# Altium footprint library Logic_Pcb.PcbLib: 6 footprints
Each footprint in its own frame and in the unit in brackets; x right, y up, seen from the top. Pads: shape width x height; smd on the part's side, far side on the other; paste and mask are expansions set on the pad; w line width, h text height; cw(c..) or ccw(c..) is an arc to the next point about the centre after c.
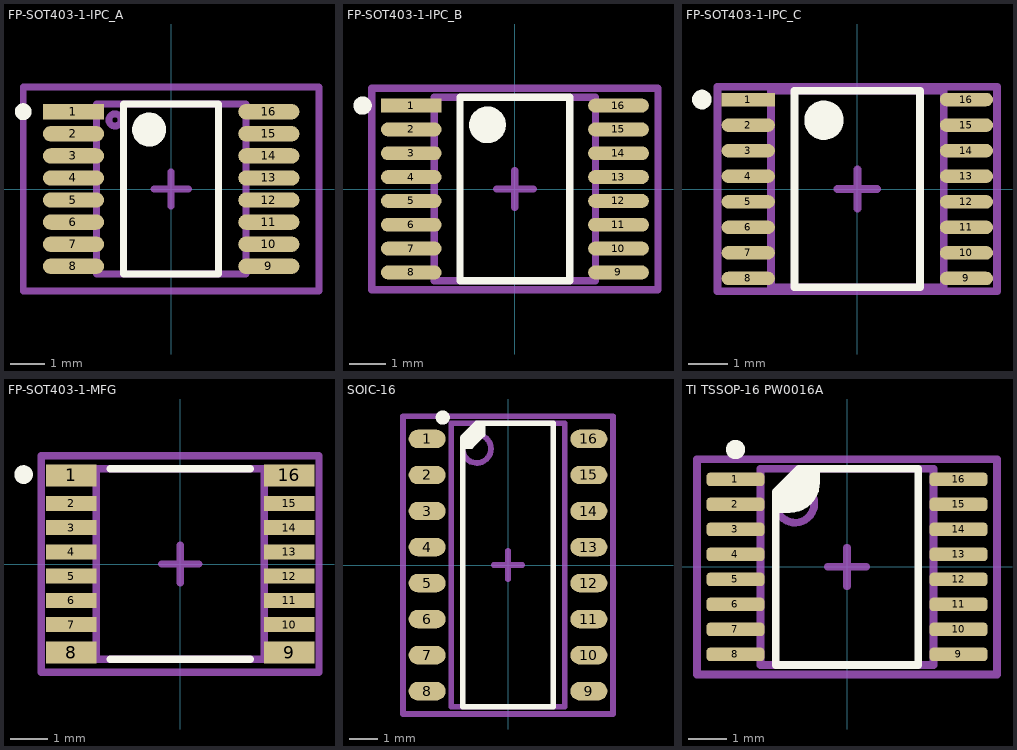
[diagram p0: the footprints below, top view; thin cyan lines are the x and y axes]

## FP-SOT403-1-IPC_A [mm]
pads (16):
  rect 1.8x0.45 smd paste+0 mask+0: 1(-2.875,2.275)
  rrect100% 1.8x0.45 smd paste+0 mask+0: 2(-2.875,1.625) 3(-2.875,0.975) 4(-2.875,0.325) 5(-2.875,-0.325) 6(-2.875,-0.975) 7(-2.875,-1.625) 8(-2.875,-2.275) 9(2.875,-2.275) 10(2.875,-1.625) 11(2.875,-0.975) 12(2.875,-0.325) 13(2.875,0.325) 14(2.875,0.975) 15(2.875,1.625) 16(2.875,2.275)
Top Overlay:
  circle w0.25: c-4.353,2.275 r0.125
  circle w0.5: c-0.648,1.75 r0.25
  lines w0.2: -1.398,-2.5 -1.398,2.5 1.398,2.5 1.398,-2.5 -1.398,-2.5
Mechanical 13:
  circle w0.2: c-1.651,2.032 r0.18
  lines w0.2: -2.2,-2.5 -2.2,2.5 2.2,2.5 2.2,-2.5 -2.2,-2.5
Mechanical 15:
  lines w0.2: -0.508,0 0.508,0 ; 0,-0.508 0,0.508 ; -4.353,-3 -4.353,3 4.353,3 4.353,-3 -4.353,-3
3D body "IC_Nexperia_74HC595PW_118_eec.STEP": height 0.25, standoff 0, extent -4.353,-3 4.353,3

## FP-SOT403-1-IPC_B [mm]
pads (16):
  rect 1.655x0.381 smd paste+0 mask+0: 1(-2.825,2.275)
  rrect100% 1.655x0.381 smd paste+0 mask+0: 2(-2.825,1.625) 3(-2.825,0.975) 4(-2.825,0.325) 5(-2.825,-0.325) 6(-2.825,-0.975) 7(-2.825,-1.625) 8(-2.825,-2.275) 9(2.825,-2.275) 10(2.825,-1.625) 11(2.825,-0.975) 12(2.825,-0.325) 13(2.825,0.325) 14(2.825,0.975) 15(2.825,1.625) 16(2.825,2.275)
Top Overlay:
  circle w0.5: c-0.748,1.75 r0.25
  circle w0.25: c-4.153,2.275 r0.125
  lines w0.2: -1.498,-2.5 1.498,-2.5 1.498,2.5 -1.498,2.5 -1.498,-2.5
Mechanical 13:
  lines w0.2: -2.2,-2.5 2.2,-2.5 2.2,2.5 -2.2,2.5 -2.2,-2.5
Mechanical 15:
  lines w0.2: -0.5,0 0.5,0 ; 0,-0.5 0,0.5 ; -3.903,-2.75 3.903,-2.75 3.903,2.75 -3.903,2.75 -3.903,-2.75
3D body "IC_Nexperia_74HC595PW_118_eec.STEP": height 0.25, standoff 0, extent -3.903,-2.75 3.903,2.75

## FP-SOT403-1-IPC_C [mm]
pads (16):
  rect 1.355x0.341 smd paste+0 mask+0: 1(-2.775,2.275)
  rrect100% 1.355x0.341 smd paste+0 mask+0: 2(-2.775,1.625) 3(-2.775,0.975) 4(-2.775,0.325) 5(-2.775,-0.325) 6(-2.775,-0.975) 7(-2.775,-1.625) 8(-2.775,-2.275) 9(2.775,-2.275) 10(2.775,-1.625) 11(2.775,-0.975) 12(2.775,-0.325) 13(2.775,0.325) 14(2.775,0.975) 15(2.775,1.625) 16(2.775,2.275)
Top Overlay:
  circle w0.5: c-0.848,1.75 r0.25
  circle w0.25: c-3.953,2.275 r0.125
  lines w0.2: -1.598,-2.5 1.598,-2.5 1.598,2.5 -1.598,2.5 -1.598,-2.5
Mechanical 13:
  lines w0.2: -2.2,-2.5 2.2,-2.5 2.2,2.5 -2.2,2.5 -2.2,-2.5
Mechanical 15:
  lines w0.2: -0.5,0 0.5,0 ; 0,-0.5 0,0.5 ; -3.553,-2.6 3.553,-2.6 3.553,2.6 -3.553,2.6 -3.553,-2.6
3D body "IC_Nexperia_74HC595PW_118_eec.STEP": height 0.25, standoff 0, extent -3.553,-2.6 3.553,2.6

## FP-SOT403-1-MFG [mm]
pads (16):
  rect 1.35x0.6 smd paste-1000 mask+0: 1(-2.925,2.375) 8(-2.925,-2.375) 9(2.925,-2.375) 16(2.925,2.375)
  rect 1.35x0.4 smd paste-1000 mask+0: 2(-2.925,1.625) 3(-2.925,0.975) 4(-2.925,0.325) 5(-2.925,-0.325) 6(-2.925,-0.975) 7(-2.925,-1.625) 10(2.925,-1.625) 11(2.925,-0.975) 12(2.925,-0.325) 13(2.925,0.325) 14(2.925,0.975) 15(2.925,1.625)
Top Overlay:
  circle w0.25: c-4.2,2.4 r0.125
  lines w0.2: -1.875,-2.55 1.875,-2.55 ; -1.875,2.55 1.875,2.55
Top Paste:
  rectangle: 2.3,2.125 3.55,2.625
  rectangle: 2.3,1.475 3.55,1.775
  rectangle: 2.3,0.825 3.55,1.125
  rectangle: 2.3,0.175 3.55,0.475
  rectangle: 2.3,-0.475 3.55,-0.175
  rectangle: 2.3,-1.125 3.55,-0.825
  rectangle: 2.3,-1.775 3.55,-1.475
  rectangle: 2.3,-2.625 3.55,-2.125
  rectangle: -3.55,-2.625 -2.3,-2.125
  rectangle: -3.55,-1.775 -2.3,-1.475
  rectangle: -3.55,-1.125 -2.3,-0.825
  rectangle: -3.55,-0.475 -2.3,-0.175
  rectangle: -3.55,0.175 -2.3,0.475
  rectangle: -3.55,0.825 -2.3,1.125
  rectangle: -3.55,1.475 -2.3,1.775
  rectangle: -3.55,2.125 -2.3,2.625
Mechanical 13:
  lines w0.2: -2.25,-2.55 -2.25,2.55 2.25,2.55 2.25,-2.55 -2.25,-2.55
Mechanical 15:
  lines w0.2: -0.5,0 0.5,0 ; 0,-0.5 0,0.5 ; -3.725,-2.9 -3.725,2.9 3.725,2.9 3.725,-2.9 -3.725,-2.9
3D body "IC_Nexperia_74HC595PW_118_eec.STEP": height 0.25, standoff 0, extent -3.725,-2.9 3.725,2.9

## SOIC-16 [mm] "SOIC, 16-Leads, Body 9.90x3.90mm, Pitch 1.27mm, IPC Medium Density"
height 1.75
pads (16):
  oval 1.31x0.65 smd: 1(-2.85,4.445) 2(-2.85,3.175) 3(-2.85,1.905) 4(-2.85,0.635) 5(-2.85,-0.635) 6(-2.85,-1.905) 7(-2.85,-3.175) 8(-2.85,-4.445) 9(2.85,-4.445) 10(2.85,-3.175) 11(2.85,-1.905) 12(2.85,-0.635) 13(2.85,0.635) 14(2.85,1.905) 15(2.85,3.175) 16(2.85,4.445)
Top Overlay:
  circle w0.25: c-2.3,5.2 r0.125
  region: -1.6,4.2 -1.3,4.2 -0.9,4.6 -0.9,5 -1.096,5 -1.6,4.496
  lines w0.2: -1.6,4.2 -1.3,4.2 -0.9,4.6 -0.9,5 ; -1.6,-5 1.6,-5 1.6,5 -1.096,5 -1.6,4.496 -1.6,-5
Mechanical 13:
  circle w0.2: c-1.1,4.1 r0.5
  lines w0.2: -2,-5 2,-5 2,5 -2,5 -2,-5
Mechanical 15:
  lines w0.2: -0.5,0 0.5,0 ; 0,-0.5 0,0.5 ; -3.7,-5.25 3.7,-5.25 3.7,5.25 -3.7,5.25 -3.7,-5.25
3D body "INFINEON SOIC-16 PG-DSO-16-11.step": height 1.75, standoff 0, extent -3,-5 3,5

## TI TSSOP-16 PW0016A [mm] "TSSOP, 16-Leads, Body 5.00x4.40mm, Pitch 0.65mm, IPC Medium Density"
height 1.2
pads (16):
  rrect50% 1.5x0.35 smd: 1(-2.9,2.275) 2(-2.9,1.625) 3(-2.9,0.975) 4(-2.9,0.325) 5(-2.9,-0.325) 6(-2.9,-0.975) 7(-2.9,-1.625) 8(-2.9,-2.275) 9(2.9,-2.275) 10(2.9,-1.625) 11(2.9,-0.975) 12(2.9,-0.325) 13(2.9,0.325) 14(2.9,0.975) 15(2.9,1.625) 16(2.9,2.275)
Top Overlay:
  circle w0.25: c-2.9,3.05 r0.125
  region: -1.25,2.55 -1.25,2.5 -0.8,2.5 -0.8,2.2 -0.8,2.131 -0.827,1.996 -0.88,1.868 -0.956,1.754 -1.054,1.656 -1.168,1.58 -1.296,1.527 -1.431,1.5 -1.5,1.5 -1.8,1.5 -1.8,1.9 -1.801,1.91 -1.808,1.928 -1.822,1.942 -1.84,1.949 -1.85,1.95
  lines w0.2: -1.8,1.5 -1.5,1.5 ccw(c-1.5,2.2) -0.8,2.2 -0.8,2.5 ; -1.85,-2.55 1.85,-2.55 1.85,2.55 -1.25,2.55 -1.85,1.95 -1.85,-2.55
Mechanical 13:
  circle w0.2: c-1.35,1.65 r0.5
  lines w0.2: -2.25,-2.55 2.25,-2.55 2.25,2.55 -2.25,2.55 -2.25,-2.55
Mechanical 15:
  lines w0.2: -0.5,0 0.5,0 ; 0,-0.5 0,0.5 ; -3.9,-2.8 3.9,-2.8 3.9,2.8 -3.9,2.8 -3.9,-2.8
3D body "TI TSSOP-16 PW0016A.step": height 1.2, standoff 0, extent -3.2,-2.55 3.2,2.55